# Altium footprint library Switchers.PcbLib: 1 footprints
Each footprint in its own frame and in the unit in brackets; x right, y up, seen from the top. Pads: shape width x height; smd on the part's side, far side on the other; paste and mask are expansions set on the pad; w line width, h text height; cw(c..) or ccw(c..) is an arc to the next point about the centre after c.
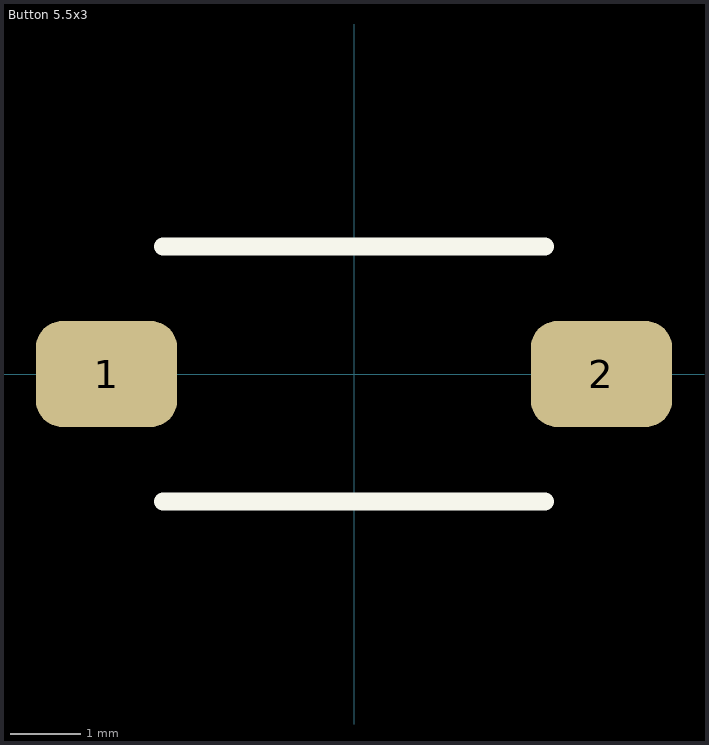
[diagram p0: the footprint, top view; thin cyan lines are the x and y axes]

## Button 5.5x3 [mm]
pads (2):
  rrect50% 2x1.5 smd: 1(-3.5,0) 2(3.5,0)
Top Overlay:
  lines w0.254: -2.7,-1.8 2.7,-1.8 ; -2.7,1.8 2.7,1.8
3D body "Button.stp": height 4, standoff 0, extent -3.75,-1.5 3.75,1.5